# EAGLE library part RELAY-110VAC (library Inventory)
SOLID STATE RELAY NAiS Source: http://www.mew-europe.com/.. en_ds_61606_0000.pdf
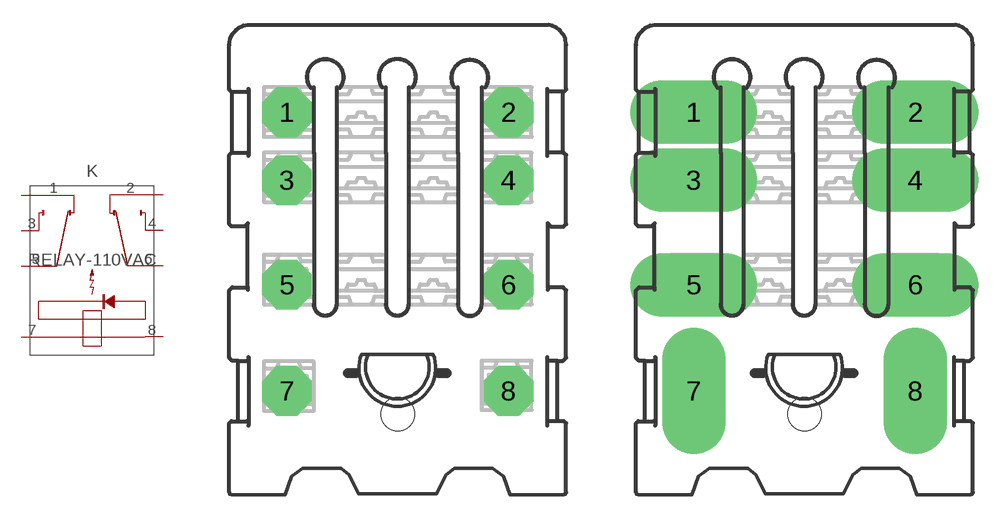
[diagram p8: symbol with the pads of RELAY-HC2-PS-K; footprints RELAY-HC2-PS-K, RELAY-110VAC]

Designator prefix K

## RELAY-110VACDEFAULT  [RELAY-HC2-PS-K]
1  1
2  2
3  3
4  4
5  5
6  6
7  7  pas
8  8  pas

## RELAY-110VACFLAT-PINS-V1  [RELAY-110VAC]
Pads as for RELAY-HC2-PS-K

## RELAY-110VACFLAT-PINS-V2  [RELAY-110VAC-V2]
Pads as for RELAY-HC2-PS-K

## RELAY-110VACV3_IN-PLACE  [RELAY-110VAC-V3]
Pads as for RELAY-HC2-PS-K

## RELAY-110VACV3_SMD  [RELAY-110VAC-V3-SMD]
Pads as for RELAY-HC2-PS-K

## Footprint RELAY-HC2-PS-K (pad centres in mm)
Relay Socked NAiS Source: http://www.mew-europe.com/.. en_ds_61606_0000.pdf
drill 2 octagon: 1 -6.675,16.8; 2 6.675,16.8; 3 -6.675,12.7; 4 6.675,12.7; 5 -6.675,6.4; 6 6.675,6.4; 7 -6.675,0; 8 6.675,0
hole 2 at 0,-1.4

## Footprint RELAY-110VAC (pad centres in mm)
Relay Socked NAiS Source: http://www.mew-europe.com/.. en_ds_61606_0000.pdf
drill 1 pad 3.81 long: 1 -6.675,16.8; 2 6.675,16.8; 3 -6.675,12.7; 4 6.675,12.7; 5 -6.675,6.4; 6 6.675,6.4; 7 -6.675,0; 8 6.675,0
hole 2 at 0,-1.4

## Footprint RELAY-110VAC-V2 (pad centres in mm)
Relay Socked NAiS Source: http://www.mew-europe.com/.. en_ds_61606_0000.pdf
drill 1 pad 3.302 long: 1 -6.675,16.8; 2 6.675,16.8; 3 -6.675,12.7; 4 6.675,12.7; 5 -6.675,6.4; 6 6.675,6.4; 7 -6.675,0; 8 6.675,0
hole 2 at 0,-1.4

## Footprint RELAY-110VAC-V3 (pad centres in mm)
Relay Socked NAiS Source: http://www.mew-europe.com/.. en_ds_61606_0000.pdf
drill 1 pad 3.302 long: 1 -6.675,16.8; 2 6.675,16.8; 3 -6.675,12.7; 4 6.675,12.7; 5 -6.675,6.4; 6 6.675,6.4; 7 -6.675,0; 8 6.675,0
drill 1: P$1 11,22; P$2 -11,22; P$3 -11,-7; P$4 11,-7
hole 2 at 0,-1.4
hole 0.85 at -7.4,16.8
hole 0.85 at -8.8,16.8
hole 0.85 at -8.1,16.8
hole 0.85 at -4.6,16.8
hole 0.85 at -5.3,16.8
hole 0.85 at -5.9,16.8
hole 0.85 at -7.4,12.7
hole 0.85 at -8.8,12.7
hole 0.85 at -8.1,12.7
hole 0.85 at -4.6,12.7
hole 0.85 at -5.3,12.7
hole 0.85 at -5.9,12.7
hole 0.85 at -7.4,6.4
hole 0.85 at -8.8,6.4
hole 0.85 at -8.1,6.4
hole 0.85 at -4.6,6.4
hole 0.85 at -5.3,6.4
hole 0.85 at -5.9,6.4
hole 0.85 at -6.675,-0.8
hole 0.85 at -6.675,-2.2
hole 0.85 at -6.675,-1.5
hole 0.85 at -6.675,2
hole 0.85 at -6.675,1.3
hole 0.85 at -6.675,0.7
hole 0.85 at 5.95,16.8
hole 0.85 at 4.55,16.8
hole 0.85 at 5.25,16.8
hole 0.85 at 8.75,16.8
hole 0.85 at 8.05,16.8
hole 0.85 at 7.45,16.8
hole 0.85 at 5.95,12.7
hole 0.85 at 4.55,12.7
hole 0.85 at 5.25,12.7
hole 0.85 at 8.75,12.7
hole 0.85 at 8.05,12.7
hole 0.85 at 7.45,12.7
hole 0.85 at 5.95,6.4
hole 0.85 at 4.55,6.4
hole 0.85 at 5.25,6.4
hole 0.85 at 8.75,6.4
hole 0.85 at 8.05,6.4
hole 0.85 at 7.45,6.4
hole 0.85 at 6.675,-0.8
hole 0.85 at 6.675,-2.2
hole 0.85 at 6.675,-1.5
hole 0.85 at 6.675,2
hole 0.85 at 6.675,1.3
hole 0.85 at 6.675,0.7

## Footprint RELAY-110VAC-V3-SMD (pad centres in mm)
Relay Socked NAiS Source: http://www.mew-europe.com/.. en_ds_61606_0000.pdf
smd 6.604 x 3.302: 1 -6.675,16.8; 2 6.675,16.8; 3 -6.675,12.7; 4 6.675,12.7; 5 -6.675,6.4; 6 6.675,6.4
smd 3.302 x 6.604: 7 -6.675,0; 8 6.675,0
drill 1: P$1 11,22; P$2 -11,22; P$3 -11,-7; P$4 11,-7
hole 2 at 0,-1.4